# EAGLE library part PN532 (library anykey)
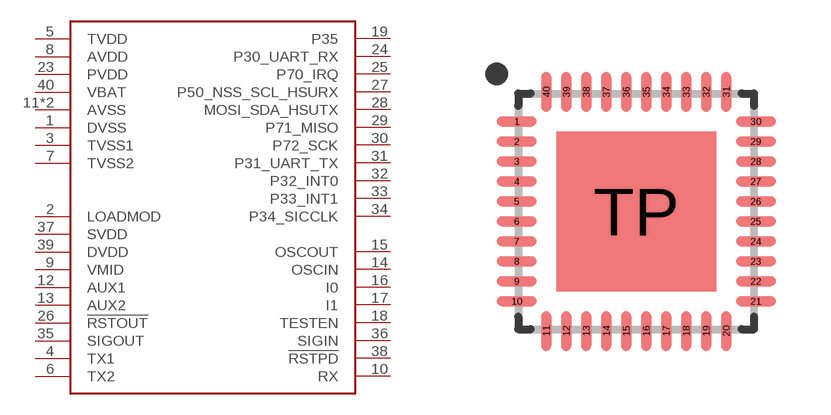
[diagram p54: symbol with the pads of HVQFN40; footprint HVQFN40]

Designator prefix -

## PN532  [HVQFN40]
1  DVSS  pwr
2  LOADMOD  out
3  TVSS1  pwr
4  TX1  out
5  TVDD  pwr
6  TX2  out
7  TVSS2  pwr
8  AVDD  pwr
9  VMID  out
10  RX  in
11  AVSS  pwr
12  AUX1  out
13  AUX2  out
14  OSCIN  in
15  OSCOUT  out
16  I0  in
17  I1  in
18  TESTEN  in
19  P35
23  PVDD  pwr
24  P30_UART_RX
25  P70_IRQ
26  !RSTOUT  out
27  P50_NSS_SCL_HSURX
28  MOSI_SDA_HSUTX
29  P71_MISO
30  P72_SCK
31  P31_UART_TX
32  P32_INT0
33  P33_INT1
34  P34_SICCLK
35  SIGOUT  out
36  SIGIN  in
37  SVDD  out
38  !RSTPD  in
39  DVDD  out
40  VBAT  pwr
TP  AVSS  pwr

## Footprint HVQFN40 (pad centres in mm)
HVQFN40 Plastic thermal enhanced very thin quad flat package; 40 terminals; body 6x6x0.85 mm;
smd 1 x 0.25: 1 -2.99,2.25; 2 -2.99,1.75; 3 -2.99,1.25; 4 -2.99,0.75; 5 -2.99,0.25; 6 -2.99,-0.25; 7 -2.99,-0.75; 8 -2.99,-1.25; 9 -2.99,-1.75; 10 -2.99,-2.25; 21 2.99,-2.25; 22 2.99,-1.75; 23 2.99,-1.25; 24 2.99,-0.75; 25 2.99,-0.25; 26 2.99,0.25; 27 2.99,0.75; 28 2.99,1.25; 29 2.99,1.75; 30 2.99,2.25
smd 0.25 x 1: 11 -2.25,-2.99; 12 -1.75,-2.99; 13 -1.25,-2.99; 14 -0.75,-2.99; 15 -0.25,-2.99; 16 0.25,-2.99; 17 0.75,-2.99; 18 1.25,-2.99; 19 1.75,-2.99; 20 2.25,-2.99; 31 2.25,2.99; 32 1.75,2.99; 33 1.25,2.99; 34 0.75,2.99; 35 0.25,2.99; 36 -0.25,2.99; 37 -0.75,2.99; 38 -1.25,2.99; 39 -1.75,2.99; 40 -2.25,2.99
smd 4 x 4: TP 0,0